# Altium footprint library Tank.PcbLib: 288 footprints (part 3 of 18)
Each footprint in its own frame and in the unit in brackets; x right, y up, seen from the top. Pads: shape width x height; smd on the part's side, far side on the other; paste and mask are expansions set on the pad; w line width, h text height; cw(c..) or ccw(c..) is an arc to the next point about the centre after c.
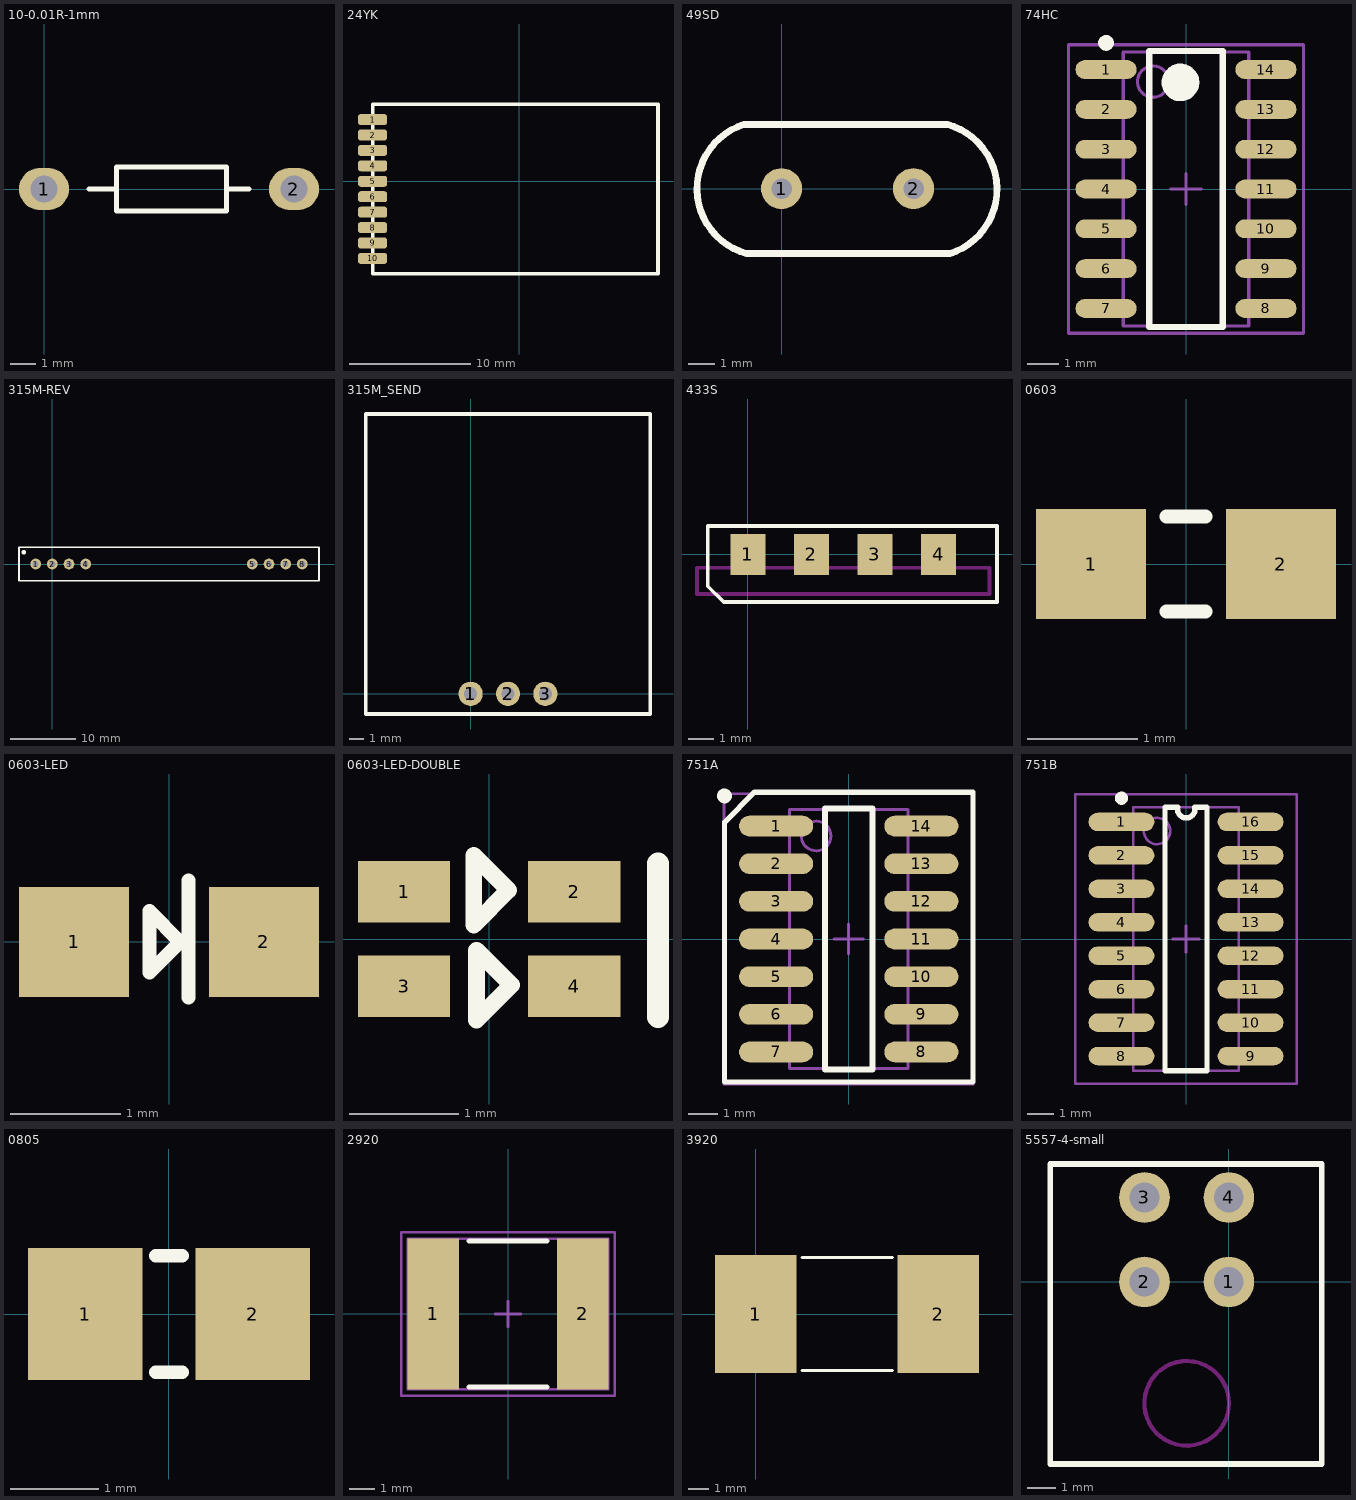
[diagram p2: the footprints below, top view; thin cyan lines are the x and y axes]

## 10-0.01R-1mm [mm]
pads (2):
  oval 2x1.7 hole 1.08: 1(0,0) 2(10,0)
Top Overlay:
  lines w0.2: 1.8,0 2.9,0 ; 7.3,0 8.2,0 ; 2.9,-0.889 7.3,-0.889 7.3,0.889 2.9,0.889 2.9,-0.889

## 24YK [mm]
pads (10):
  rrect50% 2.4x0.9 smd: 1(-12.065,5.08) 2(-12.065,3.81) 3(-12.065,2.54) 4(-12.065,1.27) 5(-12.065,0) 6(-12.065,-1.27) 7(-12.065,-2.54) 8(-12.065,-3.81) 9(-12.065,-5.08) 10(-12.065,-6.35)
Top Overlay:
  lines w0.3: -12.065,-7.62 11.43,-7.62 11.43,6.35 -12.065,6.35 -12.065,-7.62

## 49SD [mil]
pads (2):
  round 60 hole 30: 1(0,0) 2(193,0)
Top Overlay:
  lines w10: -54.62,93.95 ccw(c-25.26,0) -51,-95 246,-95 ccw(c216.64,-1.06) 242.38,93.95 -54.62,93.95

## 74HC [mm] "SOIC, 14-Leads, Body 8.8x4.0mm (max), Pitch 1.27mm, IPC Medium Density"
height 1.75
pads (14):
  oval 1.95x0.6 smd: 1(-2.55,3.81) 2(-2.55,2.54) 3(-2.55,1.27) 4(-2.55,0) 5(-2.55,-1.27) 6(-2.55,-2.54) 7(-2.55,-3.81) 8(2.55,-3.81) 9(2.55,-2.54) 10(2.55,-1.27) 11(2.55,0) 12(2.55,1.27) 13(2.55,2.54) 14(2.55,3.81)
Top Overlay:
  circle w0.25: c-2.55,4.66 r0.125
  circle w0.6: c-0.175,3.4 r0.3
  lines w0.2: -1.175,-4.4 -1.175,4.4 1.175,4.4 1.175,-4.4 -1.175,-4.4
Mechanical 13:
  circle w0.1: c-1.05,3.425 r0.5
  lines w0.1: -2,-4.375 -2,4.375 2,4.375 2,-4.375 -2,-4.375
Mechanical 15:
  lines w0.1: -0.5,0 0.5,0 ; 0,-0.5 0,0.5 ; -3.75,-4.6 -3.75,4.6 3.75,4.6 3.75,-4.6 -3.75,-4.6
3D body: height 1.75, standoff 0.1, extent -2,-4.375 2,4.375

## 315M-REV [mil]
pads (8):
  round 65 hole 36: 1(-100,0) 2(0,0) 3(100,0) 4(200,0) 5(1200,0) 6(1300,0) 7(1400,0) 8(1500,0)
Top Overlay:
  circle w21.81: c-172.19,70.87 r2.9
  lines w10: -200,-100 1600,-100 1600,100 -100,100 -200,100 -200,-100

## 315M_SEND [mm]
pads (3):
  round 1.65 hole 0.9: 1(0,0) 2(2.54,0) 3(5.08,0)
Top Overlay:
  lines w0.254: 12.141,-1.372 -7.112,-1.372 -7.112,18.999 12.192,18.999 12.192,1.524 12.192,-1.372

## 433S [mil]
pads (4):
  rect 55x65 smd: 1(0,0) 2(100,0) 3(200,0) 4(300,0)
Top Overlay:
  lines w6: -63,-50 -38,-75 392,-75 392,45 278.35,45 200.35,45 -63,45 -63,-50
Keep-Out Layer:
  lines w6: -80,-62 380,-62 380,-21 -80,-21 -80,-62

## 0603 [mm]
pads (2):
  rect 1x1 smd: 1(-0.864,0) 2(0.864,0)
Top Overlay:
  lines w0.127: -0.178,-0.432 0.178,-0.432 ; -0.178,0.432 0.178,0.432

## 0603-LED [mm]
pads (2):
  rect 1x1 smd: 1(-0.864,0) 2(0.864,0)
Top Overlay:
  lines w0.127: 0.178,-0.508 0.178,0.559 ; -0.178,-0.279 0.102,0 -0.178,0.279 -0.178,-0.279

## 0603-LED-DOUBLE [mil]
pads (4):
  rect 33x22 smd: 1(-30.5,17) 2(30.5,17) 3(-30.5,-17) 4(30.5,-17)
Top Overlay:
  lines w6: -5.5,29.49 -5.5,5 7,17.5 -5.5,30 ; -4.5,-4.51 -4.5,-29 8,-16.5 -4.5,-4
  lines w7.87: 60.5,-28 60.5,27

## 751A [mm]
pads (14):
  oval 2.5x0.7 smd: 1(-2.45,3.81) 2(-2.45,2.54) 3(-2.45,1.27) 4(-2.45,0) 5(-2.45,-1.27) 6(-2.45,-2.54) 7(-2.45,-3.81) 8(2.45,-3.81) 9(2.45,-2.54) 10(2.45,-1.27) 11(2.45,0) 12(2.45,1.27) 13(2.45,2.54) 14(2.45,3.81)
Top Overlay:
  circle w0.25: c-4.189,4.826 r0.125
  lines w0.18: -4.191,-4.826 -4.191,3.937 -3.175,4.953 4.191,4.953 4.191,-4.826 -4.191,-4.826
  lines w0.2: -0.8,-4.4 -0.8,4.4 0.8,4.4 0.8,-4.4 -0.8,-4.4
Mechanical 13:
  circle w0.1: c-1.1,3.475 r0.5
  lines w0.1: -2,-4.375 -2,4.375 2,4.375 2,-4.375 -2,-4.375
Mechanical 15:
  lines w0.1: -0.5,0 0.5,0 ; 0,-0.5 0,0.5 ; -4.2,-4.9 -4.2,4.9 4.2,4.9 4.2,-4.9 -4.2,-4.9
3D body: height 1.75, standoff 0, extent -2,-4.375 2,4.375

## 751B [mm]
pads (16):
  oval 2.5x0.7 smd: 1(-2.45,4.445) 2(-2.45,3.175) 3(-2.45,1.905) 4(-2.45,0.635) 5(-2.45,-0.635) 6(-2.45,-1.905) 7(-2.45,-3.175) 8(-2.45,-4.445) 9(2.45,-4.445) 10(2.45,-3.175) 11(2.45,-1.905) 12(2.45,-0.635) 13(2.45,0.635) 14(2.45,1.905) 15(2.45,3.175) 16(2.45,4.445)
Top Overlay:
  circle w0.25: c-2.45,5.345 r0.125
  lines w0.2: -0.8,5 -0.8,-5 0.8,-5 0.8,5
  lines w0.203: -0.791,5.004 -0.313,5.004 ; -0.313,5 ccw(c0.009,4.926) 0.33,5.004 0.791,5.004
Mechanical 13:
  circle w0.1: c-1.1,4.1 r0.5
  lines w0.1: -2,-5 -2,5 2,5 2,-5 -2,-5
Mechanical 15:
  lines w0.1: -0.5,0 0.5,0 ; 0,-0.5 0,0.5 ; -4.2,-5.5 -4.2,5.5 4.2,5.5 4.2,-5.5 -4.2,-5.5
3D body: height 1.75, standoff 0, extent -2,-5 2,5

## 0805 [mm]
pads (2):
  rect 1.3x1.5 smd: 1(-0.95,0) 2(0.95,0)
Top Overlay:
  lines w0.152: -0.152,-0.66 0.152,-0.66 ; -0.152,0.66 0.152,0.66

## 2920 [mm]
height 0.6
pads (2):
  rect 2.05x6 smd: 1(-2.975,0) 2(2.975,0)
Top Overlay:
  lines w0.2: -1.55,-2.9 1.55,-2.9 ; -1.55,2.9 1.55,2.9
Mechanical 13:
  lines w0.1: -4,-3 -4,3 4,3 4,-3 -4,-3
Mechanical 15:
  lines w0.1: -0.5,0 0.5,0 ; 0,-0.5 0,0.5 ; -4.25,-3.25 -4.25,3.25 4.25,3.25 4.25,-3.25 -4.25,-3.25
3D body: height 0.6, standoff 0, extent -4,-3 4,3

## 3920 [mm]
pads (2):
  rect 4x5.8 smd: 1(0,0) 2(9,0)
Top Overlay:
  lines w0.152: 2.286,-2.794 6.731,-2.794 ; 2.286,2.794 6.731,2.794

## 5557-4-small [mm]
pads (4):
  round 1.8 hole 1.05: 1(0,0) 2(-3,0) 3(-3,3) 4(0,3)
Top Overlay:
  lines w0.203: -6.35,-6.477 3.302,-6.477 3.302,4.191 -6.35,4.191 -6.35,-6.477
Keep-Out Layer:
  circle w0.152: c-1.5,-4.32 r1.505